# Altium footprint library KF2D.PcbLib: 21 footprints (part 2 of 2)
Each footprint in its own frame and in the unit in brackets; x right, y up, seen from the top. Pads: shape width x height; smd on the part's side, far side on the other; paste and mask are expansions set on the pad; w line width, h text height; cw(c..) or ccw(c..) is an arc to the next point about the centre after c.
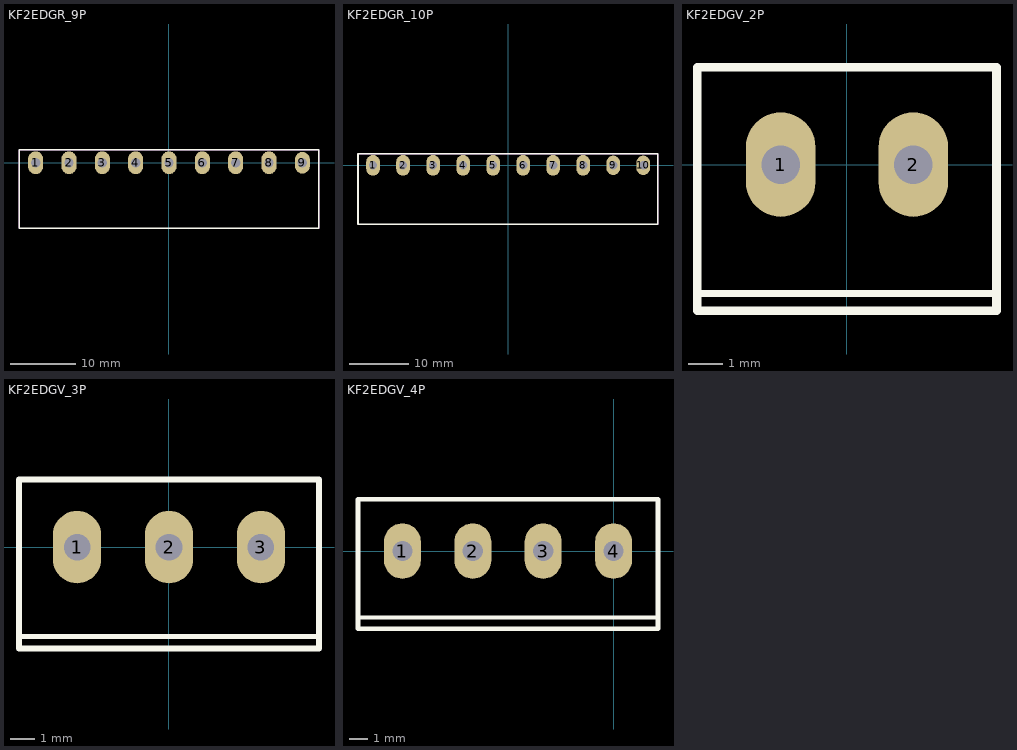
[diagram p1: the footprints below, top view; thin cyan lines are the x and y axes]

## KF2EDGR_9P [mm]
pads (9):
  oval 2.3x3.5 hole 1.4: 1(-20.32,0) 2(-15.24,0) 3(-10.16,0) 4(-5.08,0) 5(0,0) 6(5.08,0) 7(10.16,0) 8(15.24,0)
  oval 2.3x3.3 hole 1.4: 9(20.32,0)
Top Overlay:
  lines w0.254: -22.8,-10 -22.8,2 22.8,2 22.8,-10 -22.8,-10
Mechanical 15:
  lines w0.1: -22.86,-10 22.86,-10 22.86,2 -22.86,2 -22.86,-10
3D body "Header-2EDGR-5.08-9.STEP": height 8.6, standoff -3.5, extent -22.86,-10.002 22.86,2

## KF2EDGR_10P [mm]
pads (10):
  oval 2.3x3.5 hole 1.4: 1(-22.86,0) 2(-17.78,0) 3(-12.7,0) 4(-7.62,0) 5(-2.54,0) 6(2.54,0) 7(7.62,0) 8(12.7,0)
  oval 2.3x3.3 hole 1.4: 9(17.78,0) 10(22.86,0)
Top Overlay:
  lines w0.254: -25.4,-10 -25.4,2 25.3,2 25.3,-10 -25.4,-10
Mechanical 15:
  lines w0.1: -25.4,-10 25.36,-10 25.36,2 -25.4,2 -25.4,-10
3D body "Header-2EDGR-5.08-10.STEP": height 8.6, standoff -3.5, extent -25.4,-10.002 25.4,2

## KF2EDGV_2P [mm]
pads (2):
  oval 2x3 hole 1.1: 1(-1.905,0) 2(1.905,0)
Top Overlay:
  lines w0.2: -4.305,-3.7 4.295,-3.7
  lines w0.254: -4.305,-4.2 4.295,-4.2 4.295,2.8 -4.305,2.8 -4.305,-4.2
Mechanical 15:
  lines w0.1: -4.31,-4.2 4.31,-4.2 4.31,2.8 -4.31,2.8 -4.31,-4.2
3D body "User Library-Terminal Block Header - 2 Pin - ED2819-ND.step": height 9.2, standoff -3.5, extent -4.36,-4.2 4.35,2.8

## KF2EDGV_3P [mm]
pads (3):
  oval 2x3 hole 1.1: 1(-3.81,0) 2(0,0) 3(3.81,0)
Top Overlay:
  lines w0.2: -6.21,-3.7 6.215,-3.7
  lines w0.254: -6.21,-4.2 6.215,-4.2 6.215,2.8 -6.21,2.8 -6.21,-4.2
Mechanical 15:
  lines w0.1: -6.215,-4.2 6.215,-4.2 6.215,2.8 -6.215,2.8 -6.215,-4.2
3D body "User Library-Terminal Block Header - 3 Pin - ED2820-ND.step": height 9.2, standoff -3.5, extent -6.265,-4.2 6.255,2.8

## KF2EDGV_4P [mm]
pads (4):
  oval 2x3 hole 1.1: 1(-11.43,0) 2(-7.62,0) 3(-3.81,0) 4(0,0)
Top Overlay:
  lines w0.2: -13.83,-3.6 2.405,-3.6
  lines w0.254: -13.83,-4.2 2.405,-4.2 2.405,2.8 -13.83,2.8 -13.83,-4.2
Mechanical 15:
  lines w0.1: -13.835,-4.2 2.405,-4.2 2.405,2.8 -13.835,2.8 -13.835,-4.2
3D body "User Library-Terminal Block Header - 4 Pin - ED2821-ND.step": height 9.2, standoff -3.5, extent -13.885,-4.2 2.445,2.8